# Altium footprint library PH.PcbLib: 64 footprints (part 1 of 4)
Each footprint in its own frame and in the unit in brackets; x right, y up, seen from the top. Pads: shape width x height; smd on the part's side, far side on the other; paste and mask are expansions set on the pad; w line width, h text height; cw(c..) or ccw(c..) is an arc to the next point about the centre after c.
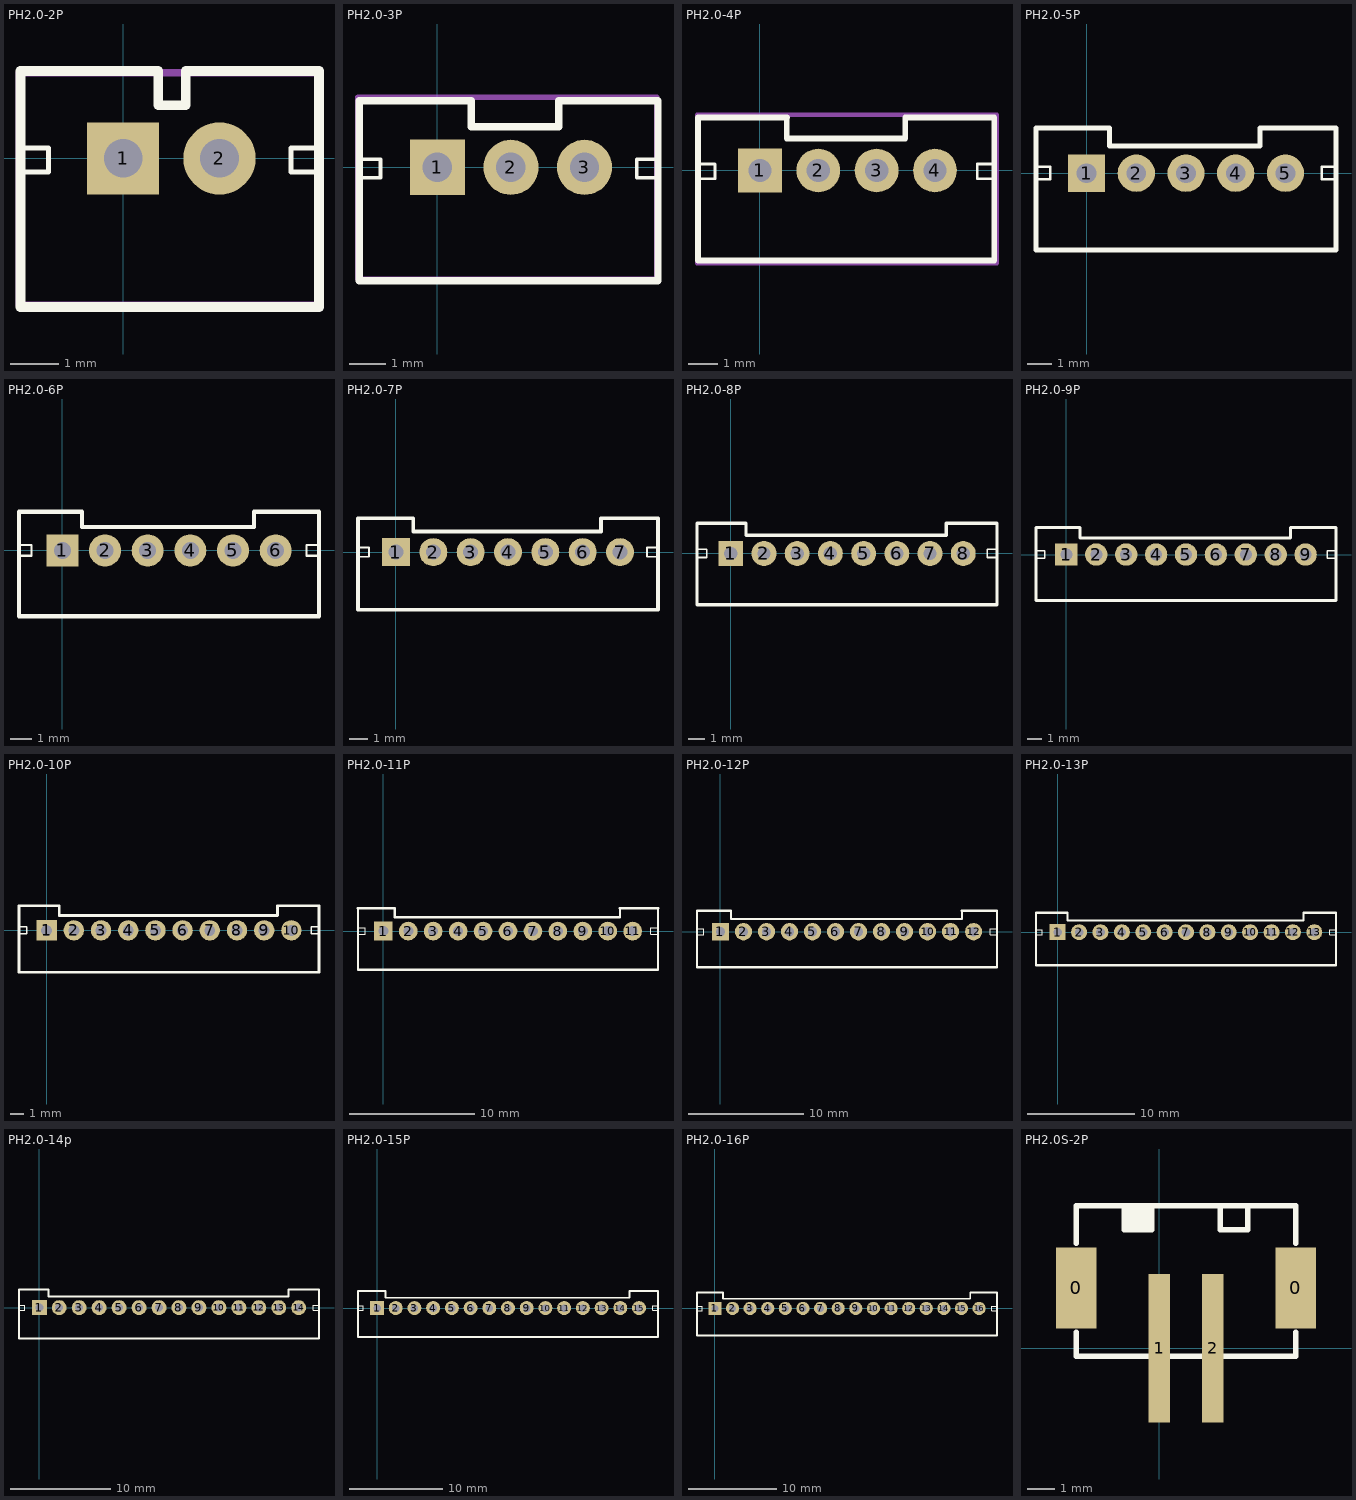
[diagram p0: the footprints below, top view; thin cyan lines are the x and y axes]

## PH2.0-2P [mm]
pads (2):
  rect 1.5x1.5 hole 0.8: 1(0,0)
  round 1.5 hole 0.8: 2(2,0)
Top Overlay:
  lines w0.1: -2.128,-0.284 -1.548,-0.284 -1.548,0.216 -2.128,0.216 ; 4.064,-0.284 3.484,-0.284 3.484,0.216 4.064,0.216
  lines w0.2: -2.128,-3.084 -2.128,1.816 ; 0.73,1.816 0.73,1.1 1.302,1.1 1.302,1.816 ; 4.064,-3.084 4.064,1.816
  lines w0.203: -2.128,-3.084 4,-3.084 ; -2.128,1.816 0.73,1.816 ; 1.302,1.816 4,1.816
Top Designator (Mech15):
  lines w0.152: -2.159,-3.048 4.064,-3.048 4.064,1.778 -2.159,1.778 -2.159,-3.048
  text "'.Designator'" at -3.302,-1.016 h1.52
3D body "PH2.0-LI-2P.STEP": height 6.01, standoff -2.99, extent -1.95,-2.972 3.95,1.728

## PH2.0-3P [mm]
pads (3):
  rect 1.5x1.5 hole 0.8: 1(0,0)
  round 1.5 hole 0.8: 2(2,0) 3(4,0)
Top Overlay:
  lines w0.1: -2.128,-0.284 -1.548,-0.284 -1.548,0.216 -2.128,0.216 ; 6,-0.284 5.42,-0.284 5.42,0.216 6,0.216
  lines w0.2: -2.128,-3.084 -2.128,1.816 ; 0.92,1.816 0.92,1.1 3.302,1.1 3.302,1.816 ; 6,-3.084 6,1.816
  lines w0.203: -2.128,-3.084 6,-3.084 ; -2.128,1.816 0.92,1.816 ; 3.302,1.816 6,1.816
Top Designator (Mech15):
  lines w0.152: -2.159,-3.048 5.969,-3.048 5.969,1.905 -2.159,1.905 -2.159,-3.048
  text "'.Designator'" at 0.254,-1.27 h1.52
3D body "PH2.0-LI-3P.STEP": height 6.01, standoff -2.99, extent -1.95,-3.023 5.95,1.677

## PH2.0-4P [mm]
pads (4):
  rect 1.5x1.5 hole 0.8: 1(0,0)
  round 1.5 hole 0.8: 2(2,0) 3(4,0) 4(6,0)
Top Overlay:
  lines w0.1: -2.128,-0.284 -1.548,-0.284 -1.548,0.216 -2.128,0.216 ; 8.032,-0.284 7.452,-0.284 7.452,0.216 8.032,0.216
  lines w0.2: -2.128,1.816 -2.128,-3.084 8.032,-3.084 8.032,1.816 ; 0.92,1.816 0.92,1.1 4.984,1.1 4.984,1.816
  lines w0.203: -2.128,1.816 0.92,1.816 ; 4.984,1.816 8.032,1.816
Top Designator (Mech15):
  lines w0.152: -2.159,-3.175 -2.159,1.905 8.128,1.905 8.128,-3.175 -2.159,-3.175
  text "'.Designator'" at 1.016,-1.397 h1.52
3D body "PH2.0-LI-4P.STEP": height 6.01, standoff -2.99, extent -1.928,-3.01 7.972,1.69

## PH2.0-5P [mm]
pads (5):
  rect 1.5x1.5 hole 0.8: 1(0,0)
  round 1.5 hole 0.8: 2(2,0) 3(4,0) 4(6,0) 5(8,0)
Top Overlay:
  lines w0.1: -2.032,-0.246 -1.452,-0.246 -1.452,0.254 -2.032,0.254 ; 10.032,-0.246 9.452,-0.246 9.452,0.254 10.032,0.254
  lines w0.2: -2.032,1.816 -2.032,-3.084 10.032,-3.084 10.032,1.816 ; 0.92,1.816 0.92,1.1 6.984,1.1 6.984,1.816
  lines w0.203: -2.032,1.816 0.92,1.816 ; 6.984,1.816 10.032,1.816
Top Designator (Mech15):
  lines w0.05: 3.5,0 4.5,0
3D body "PH2.0-LI-5P.STEP": height 6.01, standoff -2.99, extent -1.931,-2.985 9.969,1.715

## PH2.0-6P [mm]
pads (6):
  rect 1.5x1.5 hole 0.8: 1(0,0)
  round 1.5 hole 0.8: 2(2,0) 3(4,0) 4(6,0) 5(8,0) 6(10,0)
Top Overlay:
  lines w0.1: -2.032,-0.246 -1.452,-0.246 -1.452,0.254 -2.032,0.254 ; 12.032,-0.246 11.452,-0.246 11.452,0.254 12.032,0.254
  lines w0.2: -2.032,1.816 -2.032,-3.084 12.032,-3.084 12.032,1.816 ; 0.92,1.816 0.92,1.1 8.984,1.1 8.984,1.816
  lines w0.203: -2.032,1.816 0.92,1.816 ; 8.984,1.816 12.032,1.816
3D body "PH2.0-LI-6P.STEP": height 6.01, standoff -2.99, extent -1.915,-2.985 11.985,1.715

## PH2.0-7P [mm]
pads (7):
  rect 1.5x1.5 hole 0.8: 1(0,0)
  round 1.5 hole 0.8: 2(2,0) 3(4,0) 4(6,0) 5(8,0) 6(10,0) 7(12,0)
Top Overlay:
  lines w0.1: -2.032,-0.246 -1.452,-0.246 -1.452,0.254 -2.032,0.254 ; 14.032,-0.246 13.452,-0.246 13.452,0.254 14.032,0.254
  lines w0.2: -2.032,1.816 -2.032,-3.084 14.032,-3.084 14.032,1.816 ; 0.92,1.816 0.92,1.1 10.984,1.1 10.984,1.816
  lines w0.203: -2.032,1.816 0.92,1.816 ; 10.984,1.816 14.032,1.816
3D body "PH2.0-LI-7P.STEP": height 6.01, standoff -2.99, extent -1.95,-3.023 13.95,1.677

## PH2.0-8P [mm]
pads (8):
  rect 1.5x1.5 hole 0.8: 1(0,0)
  round 1.5 hole 0.8: 2(2,0) 3(4,0) 4(6,0) 5(8,0) 6(10,0) 7(12,0) 8(14,0)
Top Overlay:
  lines w0.1: -2.032,-0.246 -1.452,-0.246 -1.452,0.254 -2.032,0.254 ; 16.032,-0.246 15.452,-0.246 15.452,0.254 16.032,0.254
  lines w0.2: -2.032,1.816 -2.032,-3.084 16.032,-3.084 16.032,1.816 ; 0.92,1.816 0.92,1.1 12.984,1.1 12.984,1.816
  lines w0.203: -2.032,1.816 0.92,1.816 ; 12.984,1.816 16.032,1.816
3D body "PH2.0-LI-8P.STEP": height 6.01, standoff -2.99, extent -1.959,-2.985 15.941,1.715

## PH2.0-9P [mm]
pads (9):
  rect 1.5x1.5 hole 0.8: 1(0,0)
  round 1.5 hole 0.8: 2(2,0) 3(4,0) 4(6,0) 5(8,0) 6(10,0) 7(12,0) 8(14,0) 9(16,0)
Top Overlay:
  lines w0.1: -2.032,-0.246 -1.452,-0.246 -1.452,0.254 -2.032,0.254 ; 18.032,-0.246 17.452,-0.246 17.452,0.254 18.032,0.254
  lines w0.2: -2.032,1.816 -2.032,-3.084 18.032,-3.084 18.032,1.816 ; 0.92,1.816 0.92,1.1 14.984,1.1 14.984,1.816
  lines w0.203: -2.032,1.816 0.92,1.816 ; 14.984,1.816 18.032,1.816
Top Designator (Mech15):
  lines w0.05: 7.5,0 8.5,0
3D body "PH2.0-LI-9P.STEP": height 6.01, standoff -2.99, extent -1.994,-2.985 17.906,1.715

## PH2.0-10P [mm]
pads (10):
  rect 1.5x1.5 hole 0.8: 1(0,0)
  round 1.5 hole 0.8: 2(2,0) 3(4,0) 4(6,0) 5(8,0) 6(10,0) 7(12,0) 8(14,0) 9(16,0) 10(18,0)
Top Overlay:
  lines w0.1: -2.032,-0.246 -1.452,-0.246 -1.452,0.254 -2.032,0.254 ; 20.032,-0.246 19.452,-0.246 19.452,0.254 20.032,0.254
  lines w0.2: -2.032,1.816 -2.032,-3.084 20.032,-3.084 20.032,1.816 ; 0.92,1.816 0.92,1.1 16.984,1.1 16.984,1.816
  lines w0.203: -2.032,1.816 0.92,1.816 ; 16.984,1.816 20.032,1.816
3D body "PH2.0-LI-10P.STEP": height 6.01, standoff -2.99, extent -1.978,-3.036 19.922,1.664

## PH2.0-11P [mm]
pads (11):
  rect 1.5x1.5 hole 0.8: 1(0,0)
  round 1.5 hole 0.8: 2(2,0) 3(4,0) 4(6,0) 5(8,0) 6(10,0) 7(12,0) 8(14,0) 9(16,0) 10(18,0) 11(20,0)
Top Overlay:
  lines w0.1: -2.032,-0.246 -1.452,-0.246 -1.452,0.254 -2.032,0.254 ; 22.032,-0.246 21.452,-0.246 21.452,0.254 22.032,0.254
  lines w0.2: -2.032,1.816 -2.032,-3.084 22.032,-3.084 22.032,1.816 ; 0.92,1.816 0.92,1.1 18.984,1.1 18.984,1.816
  lines w0.203: -2.032,1.816 0.92,1.816 ; 18.984,1.816 22.032,1.816
Top Designator (Mech15):
  lines w0.05: 9.5,0 10.5,0
3D body "PH2.0-LI-11P.STEP": height 6.01, standoff -2.99, extent -1.987,-2.985 21.913,1.715

## PH2.0-12P [mm]
pads (12):
  rect 1.5x1.5 hole 0.8: 1(0,0)
  round 1.5 hole 0.8: 2(2,0) 3(4,0) 4(6,0) 5(8,0) 6(10,0) 7(12,0) 8(14,0) 9(16,0) 10(18,0) 11(20,0) 12(22,0)
Top Overlay:
  lines w0.1: -2.032,-0.246 -1.452,-0.246 -1.452,0.254 -2.032,0.254 ; 24.032,-0.246 23.452,-0.246 23.452,0.254 24.032,0.254
  lines w0.2: -2.032,1.816 -2.032,-3.084 24.032,-3.084 24.032,1.816 ; 0.92,1.816 0.92,1.1 20.984,1.1 20.984,1.816
  lines w0.203: -2.032,1.816 0.92,1.816 ; 20.984,1.816 24.032,1.816
3D body "PH2.0-LI-12P.STEP": height 6.01, standoff -2.99, extent -1.929,-2.985 23.971,1.715

## PH2.0-13P [mm]
pads (13):
  rect 1.5x1.5 hole 0.8: 1(0,0)
  round 1.5 hole 0.8: 2(2,0) 3(4,0) 4(6,0) 5(8,0) 6(10,0) 7(12,0) 8(14,0) 9(16,0) 10(18,0) 11(20,0) 12(22,0) 13(24,0)
Top Overlay:
  lines w0.1: -2.032,-0.246 -1.452,-0.246 -1.452,0.254 -2.032,0.254 ; 26.032,-0.246 25.452,-0.246 25.452,0.254 26.032,0.254
  lines w0.2: -2.032,1.816 -2.032,-3.084 26.032,-3.084 26.032,1.816 ; 0.92,1.816 0.92,1.1 22.984,1.1 22.984,1.816
  lines w0.203: -2.032,1.816 0.92,1.816 ; 22.984,1.816 26.032,1.816
Top Designator (Mech15):
  lines w0.05: 11.5,0 12.5,0
3D body "PH2.0-LI-13P.STEP": height 6.01, standoff -2.99, extent -1.955,-2.985 25.945,1.715

## PH2.0-14p [mm]
pads (14):
  rect 1.5x1.5 hole 0.8: 1(0,0)
  round 1.5 hole 0.8: 2(2,0) 3(4,0) 4(6,0) 5(8,0) 6(10,0) 7(12,0) 8(14,0) 9(16,0) 10(18,0) 11(20,0) 12(22,0) 13(24,0) 14(26,0)
Top Overlay:
  lines w0.1: -2.032,-0.246 -1.452,-0.246 -1.452,0.254 -2.032,0.254 ; 28.032,-0.246 27.452,-0.246 27.452,0.254 28.032,0.254
  lines w0.2: -2.032,1.816 -2.032,-3.084 28.032,-3.084 28.032,1.816 ; 0.92,1.816 0.92,1.1 24.984,1.1 24.984,1.816
  lines w0.203: -2.032,1.816 0.92,1.816 ; 24.984,1.816 28.032,1.816
3D body "PH2.0-LI-14P.STEP": height 6.01, standoff -2.99, extent -1.986,-2.985 27.914,1.715

## PH2.0-15P [mm]
pads (15):
  rect 1.5x1.5 hole 0.8: 1(0,0)
  round 1.5 hole 0.8: 2(2,0) 3(4,0) 4(6,0) 5(8,0) 6(10,0) 7(12,0) 8(14,0) 9(16,0) 10(18,0) 11(20,0) 12(22,0) 13(24,0) 14(26,0) 15(28,0)
Top Overlay:
  lines w0.1: -2.032,-0.246 -1.452,-0.246 -1.452,0.254 -2.032,0.254 ; 30.032,-0.246 29.452,-0.246 29.452,0.254 30.032,0.254
  lines w0.2: -2.032,1.816 -2.032,-3.084 29.968,-3.084 ; 0.92,1.816 0.92,1.1 26.984,1.1 26.984,1.816 ; 30.032,-3.084 30.032,1.816
  lines w0.203: -2.032,1.816 0.92,1.816 ; 26.984,1.816 30.032,1.816
3D body "PH2.0-LI-15P.STEP": height 6.01, standoff -2.99, extent -1.949,-2.985 29.951,1.715

## PH2.0-16P [mm]
pads (16):
  rect 1.5x1.5 hole 0.8: 1(0,0)
  round 1.5 hole 0.8: 2(2,0) 3(4,0) 4(6,0) 5(8,0) 6(10,0) 7(12,0) 8(14,0) 9(16,0) 10(18,0) 11(20,0) 12(22,0) 13(24,0) 14(26,0) 15(28,0) 16(30,0)
Top Overlay:
  lines w0.1: -2.032,-0.246 -1.452,-0.246 -1.452,0.254 -2.032,0.254 ; 32.032,-0.246 31.452,-0.246 31.452,0.254 32.032,0.254
  lines w0.2: -2.032,1.816 -2.032,-3.084 32.032,-3.084 32.032,1.816 ; 0.92,1.816 0.92,1.1 28.984,1.1 28.984,1.816
  lines w0.203: -2.032,1.816 0.92,1.816 ; 28.984,1.816 32.032,1.816
3D body "PH2.0-LI-16P.STEP": height 6.01, standoff -2.99, extent -1.967,-2.985 31.933,1.715

## PH2.0S-2P [mm]
pads (4):
  rect 1.5x3 smd: 0(-3.064,2.238) 0(5.064,2.238)
  rect 0.8x5.5 smd: 1(0,0) 2(2,0)
Top Overlay:
  rectangle: -1.286,4.397 -0.27,5.286
  lines w0.2: -3.064,0.587 -3.064,-0.302 5.064,-0.302 5.064,0.587 ; -3.064,3.889 -3.064,5.286 5.064,5.286 5.064,3.889 ; -1.286,5.286 -1.286,4.397 -0.27,4.397 -0.27,5.286 ; 2.27,5.286 2.27,4.397 3.286,4.397 3.286,5.286
3D body "PH2.0-LS-2P.STEP": height 6.15, standoff 0, extent -2.975,-2.514 5.025,5.286